# EAGLE library part JUPITER_30 (library 000001)
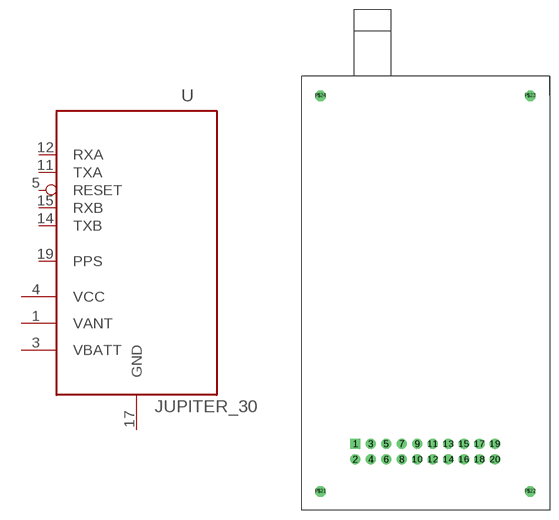
[diagram p77: symbol with the pads of JUPITER21; footprint JUPITER21]

Designator prefix -

## JUPITER_30A  [JUPITER21]
1  VANT  pwr
3  VBATT  pwr
4  VCC  pwr
5  RESET  in
11  TXA  out
12  RXA  in
14  TXB  out
15  RXB  in
17  GND  pwr
19  PPS  out

## Footprint JUPITER21 (pad centres in mm)
drill 0.5 pad 1.676 square: 1 -11.43,0
drill 0.5 pad 1.676 round: 2 -11.43,-2.54; 3 -8.89,0; 4 -8.89,-2.54; 5 -6.35,0; 6 -6.35,-2.54; 7 -3.81,0; 8 -3.81,-2.54; 9 -1.27,0; 10 -1.27,-2.54; 11 1.27,0; 12 1.27,-2.54; 13 3.81,0; 14 3.81,-2.54; 15 6.35,0; 16 6.35,-2.54; 17 8.89,0; 18 8.89,-2.54; 19 11.43,0; 20 11.43,-2.54
drill 0.5 pad 1.676 octagon: P$21 -17.1,-7.8; P$22 17.2,-7.8; P$23 17.2,57; P$24 -17.1,57